# Altium footprint library TE178489-1.PcbLib: 1 footprints
Each footprint in its own frame and in the unit in brackets; x right, y up, seen from the top. Pads: shape width x height; smd on the part's side, far side on the other; paste and mask are expansions set on the pad; w line width, h text height; cw(c..) or ccw(c..) is an arc to the next point about the centre after c.
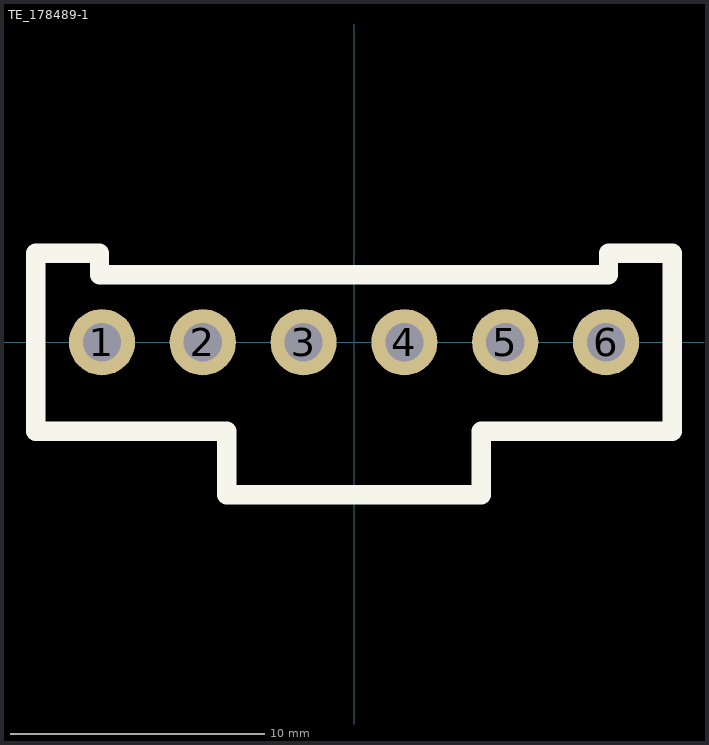
[diagram p0: the footprint, top view; thin cyan lines are the x and y axes]

## TE_178489-1 [mm]
pads (6):
  round 2.6 hole 1.5: 1(-9.9,0) 2(-5.94,0) 3(-1.98,0) 4(1.98,0) 5(5.94,0) 6(9.9,0)
Top Overlay:
  lines w0.762: 12.447,3.5 10,3.5 10,2.65 -10,2.65 -10,3.5 -12.5,3.5 -12.5,-3.5 -5,-3.5 -5,-6 5,-6 5,-3.5 12.5,-3.5 12.5,3.5